# Altium footprint library Battery.PcbLib: 59 footprints (part 2 of 4)
Each footprint in its own frame and in the unit in brackets; x right, y up, seen from the top. Pads: shape width x height; smd on the part's side, far side on the other; paste and mask are expansions set on the pad; w line width, h text height; cw(c..) or ccw(c..) is an arc to the next point about the centre after c.
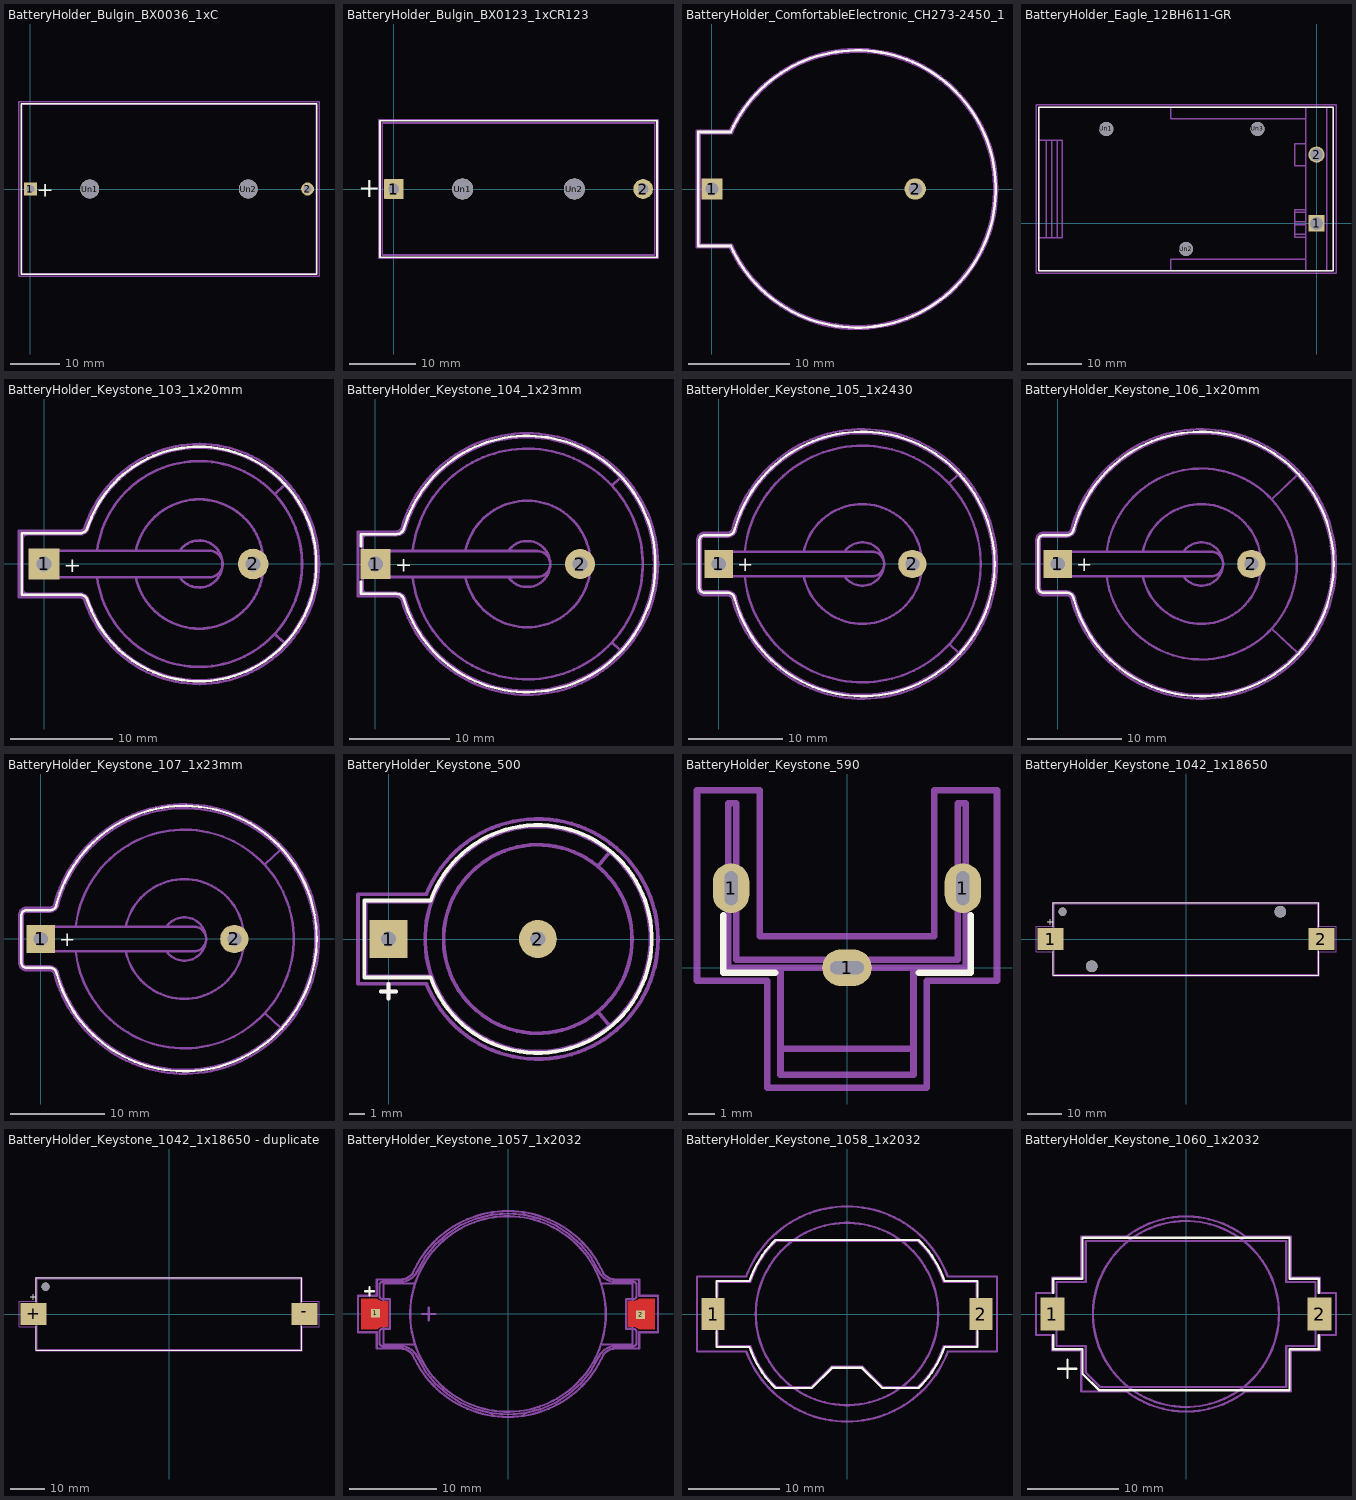
[diagram p1: the footprints below, top view; thin cyan lines are the x and y axes]

## BatteryHolder_Bulgin_BX0036_1xC [mm]
pads (4):
  rect 2.6x2.6 hole 1.6: 1(0,0)
  round 2.6 hole 1.6: 2(55.6,0)
  round 3.8 hole 3.8: Un1(11.9,0) Un2(43.7,0)
F.SilkS:
  lines w0.254: -1.81,-17.06 -1.81,17.06 57.41,17.06 57.41,-17.06 -1.81,-17.06
  text "+" at 1.265,-1.535 h3
Top Assembly:
  lines w0.254: -1.75,-17 -1.75,17 57.35,17 57.35,-17 -1.75,-17
  text "'.Designator'" at 23.803,0.21 h1
Top Courtyard:
  lines w0.254: -2.3,-17.5 -2.3,17.5 57.9,17.5 57.9,-17.5 -2.3,-17.5
Top Designator:
  text ".Designator" at 20.182,-0.508 h1.52

## BatteryHolder_Bulgin_BX0123_1xCR123 [mm]
pads (4):
  rrect8% 3x3 hole 1.6: 1(0,0)
  round 3 hole 1.6: 2(37.8,0)
  round 3.2 hole 3.2: Un1(10.425,0) Un2(27.375,0)
F.SilkS:
  lines w0.254: -2.11,-10.36 -2.11,10.36 39.91,10.36 39.91,-10.36 -2.11,-10.36
  text "+" at -5.435,-1.235 h3
Top Assembly:
  lines w0.254: -1.75,-10 -1.75,10 39.55,10 39.55,-10 -1.75,-10
  text "'.Designator'" at 14.853,-0.84 h1
  text "+" at 2.565,-1.235 h3
Top Courtyard:
  lines w0.254: -2.25,-10.5 -2.25,10.5 40.05,10.5 40.05,-10.5 -2.25,-10.5
Top Designator:
  text ".Designator" at 9.678,-0.508 h1.52

## BatteryHolder_ComfortableElectronic_CH273-2450_1x2450 [mm]
pads (2):
  rect 2.1x2.1 hole 1.3: 1(0,0)
  round 2.1 hole 1.3: 2(20,0)
F.SilkS:
  lines w0.254: -1.33,-5.61 -1.33,5.61 1.845,5.61 cw(c14.28,0) 1.845,-5.61 -1.33,-5.61
Top Assembly:
  lines w0.254: -1.22,-5.5 -1.22,5.5 1.95,5.5 cw(c14.28,0) 1.95,-5.5 -1.22,-5.5
  text "'.Designator'" at 10.003,-0.79 h1
Top Courtyard:
  lines w0.254: -1.47,-5.75 -1.47,5.75 1.77,5.75 cw(c14.28,0) 1.77,-5.75 -1.47,-5.75
Top Designator:
  text ".Designator" at 5.672,-0.508 h1.52

## BatteryHolder_Eagle_12BH611-GR [mm]
pads (5):
  rect 3x3 hole 2.4: 1(0,0)
  round 3 hole 2.4: 2(0,12.7)
  round 2.6 hole 2.6: Un1(-38.9,17.45) Un2(-24.15,-4.75) Un3(-10.9,17.45)
F.SilkS:
  lines w0.254: -51.4,-8.75 -51.4,21.45 3.1,21.45 3.1,-8.75 -51.4,-8.75
Top Assembly:
  lines w0.254: -51.4,-2.65 -47,-2.65 -47,15.35 -51.4,15.35 ; -50,-2.65 -50,15.35 ; -49,-2.65 -49,15.35 ; -48,-2.65 -48,15.35 ; -27,-8.75 -27,-6.65 -2,-6.65 ; -27,21.45 -27,19.35 -2,19.35 ; -4,-2.05 -2,-2.05 ; -4,-0.25 -2,-0.25 ; -4,0.25 -2,0.25 ; -4,2.05 -2,2.05 ; -2,-8.75 -2,21.45 ; -2,-2.55 -4,-2.55 -4,2.55 -2,2.55 ; -2,10.65 -4,10.65 -4,14.75 -2,14.75 ; 1.85,-8.75 1.85,21.45 ; -51.4,-8.75 -51.4,21.45 3.1,21.45 3.1,-8.75 -51.4,-8.75
  text "-" at -8.735,12.25 h3
  text "+" at -8.735,-1.735 h3
  text "'.Designator'" at -28.177,5.51 h1
Top Courtyard:
  lines w0.254: -51.9,-9.25 -51.9,21.95 3.6,21.95 3.6,-9.25 -51.9,-9.25
Top Designator:
  text ".Designator" at -31.768,5.842 h1.52

## BatteryHolder_Keystone_103_1x20mm [mm]
pads (2):
  rect 3x3 hole 1.5: 1(0,0)
  round 3 hole 1.5: 2(20.49,0)
F.SilkS:
  lines w0.254: -2.2,-3 3.5,-3 cw(c3.5,-3.812) 4.25,-3.5 ccw(c15.2,0) 26.696,0 ccw(c15.2,0) 4.25,3.5 cw(c3.5,3.812) 3.5,3 -2.2,3 -2.2,-3
  text "+" at 1.957,-0.793 h1.5
Top Assembly:
  lines w0.254: 5.2,-1.3 ccw(c15.2,0) 25.2,1.3 ; 5.2,1.3 cw(c15.2,0) 25.2,-1.3 ; 9,-1.3 ccw(c15.198,-0.003) 21.53,0 ccw(c15.198,0.003) 9,1.3 ; 13.3,-1.3 ccw(c15.2,0) 17.495,0.176 ; 13.3,1.3 cw(c15.2,0) 17.495,-0.176 ; 22.631,6.858 23.571,7.722 ; 22.657,-6.883 23.571,-7.722 ; -2.1,-2.5 ccw(c-1.7,-2.5) -1.7,-2.9 3.5,-2.9 cw(c3.5,-3.802) 4.35,-3.5 ccw(c15.2,0) 26.6,0 ccw(c15.2,0) 4.35,3.5 cw(c3.5,3.802) 3.5,2.9 -1.7,2.9 ccw(c-1.7,2.5) -2.1,2.5 -2.1,-2.5 ; 0,-1.3 16.2,-1.3 ccw(c16.2,0) 16.2,1.3 0,1.3 0,-1.3
  text "'.Designator'" at 3.353,1.36 h1
Top Courtyard:
  lines w0.254: -2.45,-3.25 3.5,-3.25 cw(c3.5,-3.797) 4.01,-3.6 ccw(c15.198,-0.004) 26.95,0 ccw(c15.198,0.004) 4.01,3.6 cw(c3.5,3.797) 3.5,3.25 -2.45,3.25 -2.45,-3.25
Top Designator:
  text ".Designator" at 4.632,-0.508 h1.52

## BatteryHolder_Keystone_104_1x23mm [mm]
pads (2):
  rect 3x3 hole 1.5: 1(0,0)
  round 3 hole 1.5: 2(20.49,0)
F.SilkS:
  lines w0.254: -1.45,-1.8 -1.45,-3 2.1,-3 cw(c2.1,-3.812) 2.85,-3.5 ccw(c15.2,0) 28.036,0 ccw(c15.2,0) 2.85,3.5 cw(c2.1,3.812) 2.1,3 -1.45,3 -1.45,1.8
  text "+" at 1.957,-0.793 h1.5
Top Assembly:
  lines w0.254: 3.72,-1.3 ccw(c15.2,0) 26.68,1.3 ; 3.72,1.3 cw(c15.2,0) 26.68,-1.3 ; 9,-1.3 ccw(c15.198,-0.003) 21.53,0 ccw(c15.198,0.003) 9,1.3 ; 13.3,-1.3 ccw(c15.2,0) 17.495,0.176 ; 13.3,1.3 cw(c15.2,0) 17.495,-0.176 ; 23.7,-7.85 24.5,-8.61 ; 23.7,7.85 24.5,8.61 ; 27.892,-0.002 ccw(c15.2,0) 3,3.5 cw(c2.15,3.802) 2.15,2.9 -0.9,2.9 ccw(c-0.9,2.5) -1.3,2.5 -1.3,-2.5 ccw(c-0.9,-2.5) -0.9,-2.9 2.15,-2.9 cw(c2.15,-3.802) 3,-3.5 ccw(c15.2,0) 27.892,0.002 ; 0,-1.3 16.2,-1.3 ccw(c16.2,0) 16.2,1.3 0,1.3 0,-1.3
  text "'.Designator'" at 2.403,1.56 h1
Top Courtyard:
  lines w0.254: -1.75,-3.25 2.1,-3.25 cw(c2.1,-3.797) 2.61,-3.6 ccw(c15.197,0.005) 28.29,0 ccw(c15.197,-0.005) 2.61,3.6 cw(c2.1,3.797) 2.1,3.25 -1.75,3.25 -1.75,-3.25
Top Designator:
  text ".Designator" at 5.652,-0.508 h1.52

## BatteryHolder_Keystone_105_1x2430 [mm]
pads (2):
  rect 3x3 hole 1.5: 1(0,0)
  round 3 hole 1.5: 2(20.49,0)
F.SilkS:
  lines w0.254: -2.05,-2.5 ccw(c-1.5,-2.5) -1.5,-3.05 0.95,-3.05 cw(c0.95,-3.806) 1.65,-3.52 ccw(c15.2,0) 29.2,0 ccw(c15.2,0) 1.65,3.52 cw(c0.95,3.806) 0.95,3.05 -1.5,3.05 ccw(c-1.5,2.5) -2.05,2.5 -2.05,-2.5
  text "+" at 1.957,-0.793 h1.5
Top Assembly:
  lines w0.254: 2.75,-1.3 ccw(c15.2,0) 27.65,1.3 ; 2.75,1.3 cw(c15.2,0) 27.65,-1.3 ; 9,-1.3 ccw(c15.198,-0.003) 21.53,0 ccw(c15.198,0.003) 9,1.3 ; 13.3,-1.3 ccw(c15.2,0) 17.495,0.176 ; 13.3,1.3 cw(c15.2,0) 17.495,-0.176 ; 24.384,8.547 25.299,9.399 ; 24.409,-8.496 25.375,-9.398 ; -1.9,-2.5 ccw(c-1.5,-2.5) -1.5,-2.9 0.95,-2.9 cw(c0.95,-3.802) 1.8,-3.5 ccw(c15.2,0) 29.05,0 ccw(c15.2,0) 1.8,3.5 cw(c0.95,3.802) 0.95,2.9 -1.5,2.9 ccw(c-1.5,2.5) -1.9,2.5 -1.9,-2.5 ; 0,-1.3 16.2,-1.3 ccw(c16.2,0) 16.2,1.3 0,1.3 0,-1.3
  text "'.Designator'" at 2.353,2.36 h1
Top Courtyard:
  lines w0.254: -2.3,-2.5 ccw(c-1.5,-2.5) -1.5,-3.3 0.95,-3.3 cw(c0.95,-3.803) 1.41,-3.6 ccw(c15.199,-0.004) 29.45,0 ccw(c15.199,0.004) 1.41,3.6 cw(c0.95,3.803) 0.95,3.3 -1.5,3.3 ccw(c-1.5,2.5) -2.3,2.5 -2.3,-2.5
Top Designator:
  text ".Designator" at 5.957,-0.508 h1.52

## BatteryHolder_Keystone_106_1x20mm [mm]
pads (2):
  rect 3x3 hole 1.5: 1(0,0)
  round 3 hole 1.5: 2(20.49,0)
F.SilkS:
  lines w0.254: -2.05,-2.5 ccw(c-1.5,-2.5) -1.5,-3.05 0.95,-3.05 cw(c0.95,-3.806) 1.65,-3.52 ccw(c15.2,0) 29.2,0 ccw(c15.2,0) 1.65,3.52 cw(c0.95,3.806) 0.95,3.05 -1.5,3.05 ccw(c-1.5,2.5) -2.05,2.5 -2.05,-2.5
  text "+" at 1.957,-0.793 h1.5
Top Assembly:
  lines w0.254: 5.18,-1.3 ccw(c15.2,0) 25.22,1.3 ; 5.18,1.3 cw(c15.2,0) 25.22,-1.3 ; 9,-1.3 ccw(c15.198,-0.003) 21.53,0 ccw(c15.198,0.003) 9,1.3 ; 13.3,-1.3 ccw(c15.2,0) 17.495,0.176 ; 13.3,1.3 cw(c15.2,0) 17.495,-0.176 ; 22.644,-6.858 25.35,-9.373 ; 22.657,6.858 25.342,9.429 ; -1.9,-2.5 ccw(c-1.5,-2.5) -1.5,-2.9 0.95,-2.9 cw(c0.95,-3.802) 1.8,-3.5 ccw(c15.2,0) 29.05,0 ccw(c15.2,0) 1.8,3.5 cw(c0.95,3.802) 0.95,2.9 -1.5,2.9 ccw(c-1.5,2.5) -1.9,2.5 -1.9,-2.5 ; 0,-1.3 16.2,-1.3 ccw(c16.2,0) 16.2,1.3 0,1.3 0,-1.3
  text "'.Designator'" at 3.253,1.91 h1
Top Courtyard:
  lines w0.254: -2.3,-2.5 ccw(c-1.5,-2.5) -1.5,-3.3 0.95,-3.3 cw(c0.95,-3.803) 1.41,-3.6 ccw(c15.199,-0.004) 29.45,0 ccw(c15.199,0.004) 1.41,3.6 cw(c0.95,3.803) 0.95,3.3 -1.5,3.3 ccw(c-1.5,2.5) -2.3,2.5 -2.3,-2.5
Top Designator:
  text ".Designator" at 5.957,-0.508 h1.52

## BatteryHolder_Keystone_107_1x23mm [mm]
pads (2):
  rect 3x3 hole 1.5: 1(0,0)
  round 3 hole 1.5: 2(20.49,0)
F.SilkS:
  lines w0.254: 1.65,3.52 cw(c0.95,3.806) 0.95,3.05 -1.5,3.05 ccw(c-1.5,2.5) -2.05,2.5 -2.05,-2.5 ccw(c-1.5,-2.5) -1.5,-3.05 0.95,-3.05 cw(c0.95,-3.806) 1.65,-3.52 ccw(c15.2,0) 29.2,0 ccw(c15.2,0.085) 1.65,3.605
  text "+" at 1.957,-0.793 h1.5
Top Assembly:
  lines w0.254: 3.7,-1.3 ccw(c15.2,0) 26.7,1.3 ; 3.7,1.3 cw(c15.2,0) 26.7,-1.3 ; 9,-1.3 ccw(c15.198,-0.003) 21.53,0 ccw(c15.198,0.003) 9,1.3 ; 13.3,-1.3 ccw(c15.2,0) 17.495,0.176 ; 13.3,1.3 cw(c15.2,0) 17.495,-0.176 ; 23.711,7.887 25.339,9.439 ; 23.724,-7.861 25.367,-9.391 ; -1.9,-2.5 ccw(c-1.5,-2.5) -1.5,-2.9 0.95,-2.9 cw(c0.95,-3.802) 1.8,-3.5 ccw(c15.2,0) 29.05,0 ccw(c15.2,0) 1.8,3.5 cw(c0.95,3.802) 0.95,2.9 -1.5,2.9 ccw(c-1.5,2.5) -1.9,2.5 -1.9,-2.5 ; 0,-1.3 16.2,-1.3 ccw(c16.2,0) 16.2,1.3 0,1.3 0,-1.3
  text "'.Designator'" at 3.053,2.31 h1
Top Courtyard:
  lines w0.254: -2.3,-2.5 ccw(c-1.5,-2.5) -1.5,-3.3 0.95,-3.3 cw(c0.95,-3.803) 1.41,-3.6 ccw(c15.199,-0.004) 29.45,0 ccw(c15.199,0.004) 1.41,3.6 cw(c0.95,3.803) 0.95,3.3 -1.5,3.3 ccw(c-1.5,2.5) -2.3,2.5 -2.3,-2.5
Top Designator:
  text ".Designator" at 5.957,-0.508 h1.52

## BatteryHolder_Keystone_500 [mil]
pads (2):
  rect 100x100 hole 40: 1(0,0)
  round 100 hole 40: 2(393,0)
F.SilkS:
  lines w10: -19.68,-137.8 19.68,-137.8 ; 0,-157.48 0,-118.11 ; -64,-101.5 110.63,-101.5 ccw(c393,0) 110.63,101.5 -64,101.5 -64,-101.5
Top Assembly:
  circle w10: c393,0 r296.5
  circle w10: c393,0 r248
  lines w10: -19.68,-137.8 19.68,-137.8 ; 0,-157.48 0,-118.11 ; 113,-98 -60.5,-98 -60.5,98 113,98 ; 550.97,-191.18 581.55,-228.18 ; 550.97,191.18 581.55,228.18
  text "'.Designator'" at 215.68,-33.08 h39.37
Top Courtyard:
  lines w10: -80.31,-117.72 99.61,-117.72 ccw(c393.08,0) 99.61,117.72 -80.31,117.72 -80.31,-117.72
Top Designator:
  text ".Designator" at 14.58,-19.99 h60

## BatteryHolder_Keystone_590 [mm]
pads (3):
  rrect100% 1.4x1.9 hole 0.5 slot 1.3 at 90 deg: 1(-4.445,3.05) 1(4.445,3.05)
  rrect100% 1.9x1.4 hole 0.5 slot 1.3 at 0 deg: 1(0,0)
F.SilkS:
  lines w0.254: -4.75,2 -4.75,-0.2 -2.75,-0.2 ; 2.75,-0.2 4.75,-0.2 4.75,2
Top Assembly:
  lines w0.254: -2.55,-3.1 2.55,-3.1 ; -2.55,0 -2.55,-4.1 2.55,-4.1 2.55,0 ; -4.55,0 4.55,0 4.55,6.3 4.25,6.3 4.25,0.3 -4.25,0.3 -4.25,6.3 -4.55,6.3 -4.55,0
  text "'.Designator'" at -4.047,1.16 h1
Top Courtyard:
  lines w0.254: -5.75,-0.5 -3.05,-0.5 -3.05,-4.6 3.05,-4.6 3.05,-0.5 5.75,-0.5 5.75,6.8 3.35,6.8 3.35,1.2 -3.35,1.2 -3.35,6.8 -5.75,6.8 -5.75,-0.5
Top Designator:
  text ".Designator" at -7.618,0.592 h1.52

## BatteryHolder_Keystone_1042_1x18650 [mm]
pads (5):
  rrect4% 7.5x6.5 smd: 1(-39.69,0) 2(39.69,0)
  round 2.39 hole 2.39: Un1(-36.13,8)
  round 3.45 hole 3.45: Un2(-27.62,-8) Un3(27.62,8)
F.SilkS:
  lines w0.254: -38.89,-3.51 -38.89,-10.685 38.89,-10.685 38.89,-3.51 ; -38.89,3.51 -38.89,10.685 38.89,10.685 38.89,3.51
  text "+" at -41.007,3.993 h2
Top Assembly:
  lines w0.254: -38.53,-10.325 -38.53,10.325 38.53,10.325 38.53,-10.325 -38.53,-10.325
  text "'.Designator'" at -4.047,-0.84 h1
  text "+" at -36.007,-0.857 h2
Top Courtyard:
  lines w0.254: -43.94,-3.75 -43.94,3.75 -39.03,3.75 -39.03,10.83 39.03,10.83 39.03,3.75 43.94,3.75 43.94,-3.75 39.03,-3.75 39.03,-10.83 -39.03,-10.83 -39.03,-3.75 -43.94,-3.75
Top Designator:
  text ".Designator" at -7.618,-0.508 h1.52

## BatteryHolder_Keystone_1042_1x18650 - duplicate [mm]
pads (3):
  rrect4% 7.5x6.5 smd: +(-39.69,0) -(39.69,0)
  round 2.39 hole 2.39: Un1(-36.13,8)
F.SilkS:
  lines w0.254: -38.89,-3.51 -38.89,-10.685 38.89,-10.685 38.89,-3.51 ; -38.89,3.51 -38.89,10.685 38.89,10.685 38.89,3.51
  text "+" at -41.007,3.993 h2
Top Assembly:
  lines w0.254: -38.53,-10.325 38.53,-10.325 38.53,10.325 -38.53,10.325 -38.53,-10.325
  text "+" at -36.007,-0.857 h2
  text "'.Designator'" at -4.047,-0.84 h1
Top Courtyard:
  lines w0.254: -43.94,-3.75 -39.03,-3.75 -39.03,-10.83 39.03,-10.83 39.03,-3.75 43.94,-3.75 43.94,3.75 39.03,3.75 39.03,10.83 -39.03,10.83 -39.03,3.75 -43.94,3.75 -43.94,-3.75

## BatteryHolder_Keystone_1057_1x2032 [mm]
pads (2):
  rect 1x1 smd: 1(-15.15,0.1) 2(15.15,-0.1)
F.Cu:
  region: 16.8,-1.75 14.95,-1.75 14.878,-1.695 14.807,-1.639 14.649,-1.55 14.565,-1.517 14.481,-1.485 14.392,-1.465 14.304,-1.444 14.124,-1.43 13.706,-1.43 13.706,1.44 14.106,1.44 14.288,1.453 14.467,1.493 14.637,1.559 14.797,1.648 14.869,1.704 14.941,1.76 16.8,1.76
  region: -14.95,1.75 -14.878,1.695 -14.807,1.639 -14.649,1.55 -14.565,1.517 -14.481,1.485 -14.392,1.465 -14.304,1.444 -14.124,1.43 -13.706,1.43 -13.706,-1.44 -14.106,-1.44 -14.288,-1.453 -14.467,-1.493 -14.637,-1.559 -14.797,-1.648 -14.869,-1.704 -14.941,-1.76 -16.8,-1.76 -16.8,1.75
F.SilkS:
  lines w0.254: -16.35,2.6 -15.35,2.6 ; -15.85,2.1 -15.85,3.1
F.Paste:
  region: 16.8,-1.75 14.95,-1.75 14.878,-1.695 14.807,-1.639 14.649,-1.55 14.565,-1.517 14.481,-1.485 14.392,-1.465 14.304,-1.444 14.124,-1.43 13.706,-1.43 13.706,1.44 14.106,1.44 14.288,1.453 14.467,1.493 14.637,1.559 14.797,1.648 14.869,1.704 14.941,1.76 16.8,1.76
  region: -14.95,1.75 -14.878,1.695 -14.807,1.639 -14.649,1.55 -14.565,1.517 -14.481,1.485 -14.392,1.465 -14.304,1.444 -14.124,1.43 -13.706,1.43 -13.706,-1.44 -14.106,-1.44 -14.288,-1.453 -14.467,-1.493 -14.637,-1.559 -14.797,-1.648 -14.869,-1.704 -14.941,-1.76 -16.8,-1.76 -16.8,1.75
F.Mask:
  region: 16.8,-1.75 14.95,-1.75 14.878,-1.695 14.807,-1.639 14.649,-1.55 14.565,-1.517 14.481,-1.485 14.392,-1.465 14.304,-1.444 14.124,-1.43 13.706,-1.43 13.706,1.44 14.106,1.44 14.288,1.453 14.467,1.493 14.637,1.559 14.797,1.648 14.869,1.704 14.941,1.76 16.8,1.76
  region: -14.95,1.75 -14.878,1.695 -14.807,1.639 -14.649,1.55 -14.565,1.517 -14.481,1.485 -14.392,1.465 -14.304,1.444 -14.124,1.43 -13.706,1.43 -13.706,-1.44 -14.106,-1.44 -14.288,-1.453 -14.467,-1.493 -14.637,-1.559 -14.797,-1.648 -14.869,-1.704 -14.941,-1.76 -16.8,-1.76 -16.8,1.75
Top Assembly:
  circle w0.254: c0,0 r11.18
  lines w0.254: -10.62,-3.5 -14.25,-3.5 -14.25,3.5 -10.62,3.5 ; -9.8,0 -8.3,0 ; -9.05,-0.75 -9.05,0.75 ; 10.62,-3.5 14.25,-3.5 14.25,3.5 10.62,3.5
  text "'.Designator'" at -4.047,-0.84 h1
Top Courtyard:
  lines w0.254: -17.15,-2.09 -15,-2.09 -15,-3.95 -12.25,-3.95 cw(c-12.277,-5.654) -10.9,-4.65 ccw(c0,0.13) 10.9,-4.65 cw(c12.277,-5.654) 12.25,-3.95 15,-3.95 15,-2.09 17.15,-2.09 17.15,2.09 15,2.09 15,3.95 12.25,3.95 cw(c12.277,5.654) 10.9,4.65 ccw(c0,-0.13) -10.9,4.65 cw(c-12.277,5.654) -12.25,3.95 -15,3.95 -15,2.09 -17.15,2.09 -17.15,-2.09
Top Designator:
  text ".Designator" at -7.618,-0.508 h1.52
Board Shape:
  lines w0.254: 14.7,-2.085 ccw(c14.3,-2.085) 14.3,-1.685 13.5,-1.685 13.5,1.685 14.3,1.685 ccw(c14.3,2.085) 14.7,2.085 14.7,3.285 ccw(c14.3,3.285) 14.3,3.685 12.245,3.685 11.921,3.711 11.607,3.789 11.309,3.917 11.035,4.092 10.794,4.308 10.591,4.561 10.431,4.843 9.511,6.465 8.341,7.917 6.952,9.16 5.381,10.163 3.668,10.899 1.858,11.349 0,11.5 -1.858,11.349 -3.668,10.899 -5.381,10.163 -6.952,9.16 -8.341,7.917 -9.511,6.465 -10.431,4.843 -10.591,4.561 -10.794,4.308 -11.035,4.092 -11.309,3.917 -11.607,3.789 -11.921,3.711 -12.245,3.685 -14.3,3.685 ccw(c-14.3,3.285) -14.7,3.285 -14.7,2.085 ccw(c-14.3,2.085) -14.3,1.685 -13.5,1.685 -13.5,-1.685 -14.3,-1.685 ccw(c-14.3,-2.085) -14.7,-2.085 -14.7,-3.285 ccw(c-14.3,-3.285) -14.3,-3.685 -12.245,-3.685 -11.921,-3.711 -11.607,-3.789 -11.309,-3.917 -11.035,-4.092 -10.794,-4.308 -10.591,-4.561 -10.431,-4.843 -9.511,-6.465 -8.341,-7.917 -6.952,-9.16 -5.381,-10.163 -3.668,-10.899 -1.858,-11.349 0,-11.5 1.858,-11.349 3.668,-10.899 5.381,-10.163 6.952,-9.16 8.341,-7.917 9.511,-6.465 10.431,-4.843 10.591,-4.561 10.794,-4.308 11.035,-4.092 11.309,-3.917 11.607,-3.789 11.921,-3.711 12.245,-3.685 14.3,-3.683 ccw(c14.3,-3.283) 14.7,-3.283 14.7,-2.083

## BatteryHolder_Keystone_1058_1x2032 [mm]
pads (2):
  rect 2.54x3.51 smd: 1(-14.68,0) 2(14.68,0)
F.SilkS:
  lines w0.254: -14.31,-1.9 -14.31,-3.61 -10.692,-3.61 ccw(c0,0) -7.845,-8.112 ; -14.31,1.9 -14.31,3.61 -10.692,3.61 cw(c0,0) -7.845,8.112 ; -7.847,-8.11 -3.86,-8.11 -1.66,-5.91 1.66,-5.91 3.86,-8.11 7.847,-8.11 ; -7.847,8.11 7.847,8.11 ; 7.845,-8.112 ccw(c0,0) 10.692,-3.61 14.31,-3.61 14.31,-1.9 ; 7.845,8.112 cw(c0,0) 10.692,3.61 14.31,3.61 14.31,1.9
Top Assembly:
  lines w0.254: -14.2,-1.9 -14.2,-3.5 -10.613,-3.5 ccw(c0,0) -7.803,-8 -3.9,-8 -1.7,-5.8 1.7,-5.8 3.9,-8 7.803,-8 ccw(c0,0) 10.613,-3.5 14.2,-3.5 14.2,-1.9 ; -14.2,1.9 -14.2,3.5 -10.613,3.5 cw(c0,0) -7.803,8 7.803,8 cw(c0,0) 10.613,3.5 14.2,3.5 14.2,1.9
  text "'.Designator'" at -4.047,-0.84 h1
Top Courtyard:
  lines w0.254: -11.06,-4.11 -16.45,-4.11 -16.45,4.11 -11.06,4.11 cw(c0,0) 11.058,4.116 ; -11.058,-4.116 ccw(c0,0) 11.06,-4.11 16.45,-4.11 16.45,4.11 11.06,4.11
Top Designator:
  text ".Designator" at -7.618,-0.508 h1.52
Dwgs.User:
  circle w0.254: c0,0 r10

## BatteryHolder_Keystone_1060_1x2032 [mm]
pads (2):
  rect 2.6x3.6 smd: 1(-14.65,0) 2(14.65,0)
F.SilkS:
  lines w0.254: -14.55,-2.3 -14.55,-3.85 -11.35,-3.85 -11.35,-6.55 -9.55,-8.35 11.35,-8.35 11.35,-3.85 14.55,-3.85 14.55,-2.3 ; -14.55,2.3 -14.55,3.85 -11.35,3.85 -11.35,8.35 11.35,8.35 11.35,3.85 14.55,3.85 14.55,2.3 ; -14,-6 -12,-6 ; -13,-7 -13,-5
Top Assembly:
  lines w0.254: -14.2,-3.5 -11,-3.5 -11,-6.4 -9.4,-8 11,-8 11,-3.5 14.2,-3.5 14.2,3.5 11,3.5 11,8 -11,8 -11,3.5 -14.2,3.5 -14.2,-3.5
  text "'.Designator'" at -4.047,-0.84 h1
Top Courtyard:
  lines w0.254: -16.45,-2.3 -14.7,-2.3 -14.7,-4 -11.5,-4 -11.5,-8.5 -6.5,-8.5 ccw(c0,0) 6.5,-8.5 11.5,-8.5 11.5,-4 14.7,-4 14.7,-2.3 16.45,-2.3 16.45,2.3 14.7,2.3 14.7,4 11.5,4 11.5,8.5 6.5,8.5 ccw(c0,0) -6.5,8.5 -11.5,8.5 -11.5,4 -14.7,4 -14.7,2.3 -16.45,2.3 -16.45,-2.3
Top Designator:
  text ".Designator" at -7.618,-0.508 h1.52
Dwgs.User:
  circle w0.254: c0,0 r10.2